# Altium integrated library Headers_Integrated_Library.IntLib: 18 symbols
Pins are listed as number, name and electrical type; pins without a type are passive.

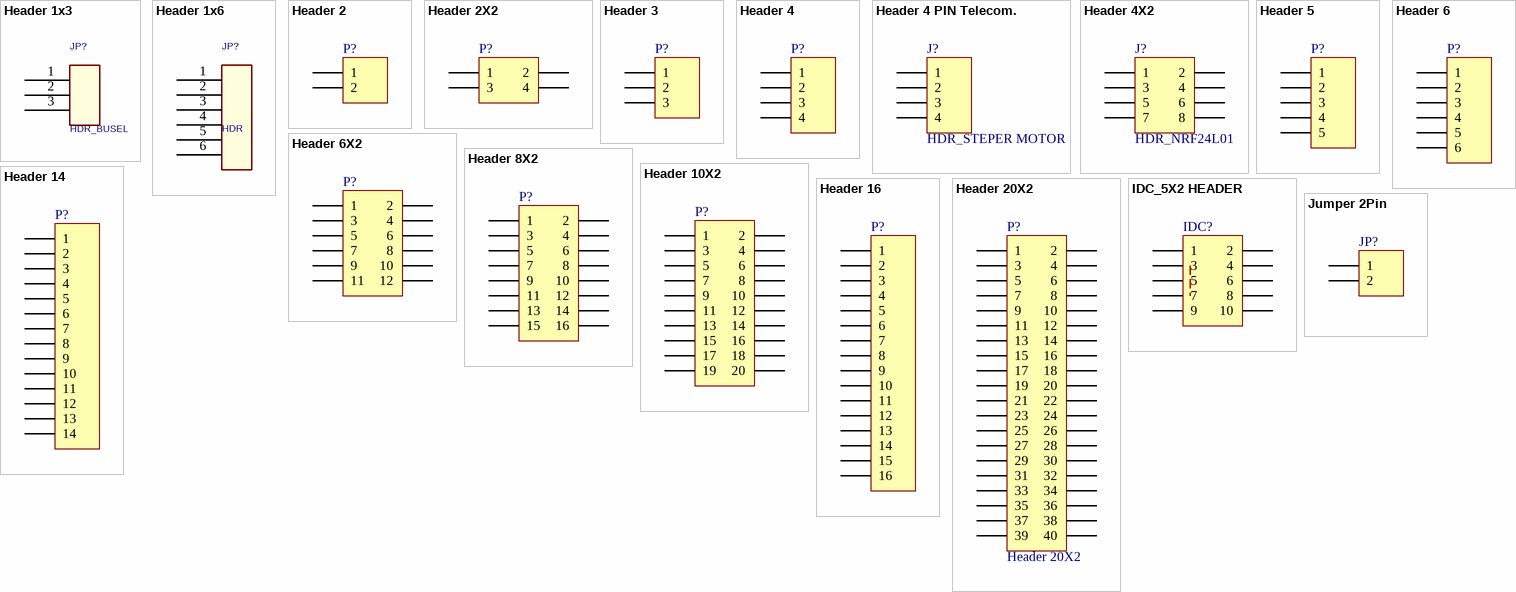
[diagram p0: symbols Header 1x3 to Jumper 2Pin]

## Header 1x3
designator JP?, comment HDR_BUSEL
header or jumper box
footprint HDR_1x3 (Header /Jumper box-Designer Abbas Basereh)
pins: 1, 2, 3

## Header 1x6
designator JP?, comment HDR
header or jumper box; DESIGNER: ABBAS BASEREH
footprint HDR_1x6 (Header /Jumper box-Designer Abbas Basereh)
pins: 1, 2, 3, 4, 5, 6

## Header 2
designator P?  (value not drawn)
Header, 2-Pin; LatestRevisionDate: 17-Jul-2002; LatestRevisionNote: Re-released for DXP Platform.; Publisher: Altium Limited
footprint My_1X02
pins: 1, 2

## Header 2X2
designator P?  (value not drawn)
Header, 2-Pin, Dual row; LatestRevisionDate: 17-Jul-2002; LatestRevisionNote: Re-released for DXP Platform.; Publisher: Altium Limited
footprint My_2X02
pins: 1, 2, 3, 4

## Header 3
designator P?  (value not drawn)
Header, 3-Pin; LatestRevisionDate: 17-Jul-2002; LatestRevisionNote: Re-released for DXP Platform.; Publisher: Altium Limited
footprint My_1X03
pins: 1, 2, 3

## Header 4
designator P?  (value not drawn)
Header, 4-Pin; LatestRevisionDate: 17-Jul-2002; LatestRevisionNote: Re-released for DXP Platform.; Publisher: Altium Limited
footprint My_1X04
pins: 1, 2, 3, 4

## Header 4 PIN Telecom.
designator J?, comment HDR_STEPER MOTOR
Header, 4-Pin Telecom.; Designer: Abbas Basereh; Data: 16-12-2016; Link: *; Part. No: *
footprint CON WF_4 (DS1070  WF, Cvilux CI31 pitch 2.54mm-Designer Abbas Basereh)
pins: 1, 2, 3, 4

## Header 4X2
designator J?, comment HDR_NRF24L01
Header, 4-Pin, Dual row; Designer: Abbas Basereh; Data: 16-12-2016; Link: *; Part. No: *
footprint HDR_2X4 (Designer:Abbas Basereh)
pins: 1, 2, 3, 4, 5, 6, 7, 8

## Header 5
designator P?  (value not drawn)
Header, 5-Pin; LatestRevisionDate: 17-Jul-2002; LatestRevisionNote: Re-released for DXP Platform.; Publisher: Altium Limited
footprint My_1X05
pins: 1, 2, 3, 4, 5

## Header 6
designator P?  (value not drawn)
Header, 6-Pin; LatestRevisionDate: 17-Jul-2002; LatestRevisionNote: Re-released for DXP Platform.; Publisher: Altium Limited
footprint My_1X06
pins: 1, 2, 3, 4, 5, 6

## Header 6X2
designator P?  (value not drawn)
Header, 6-Pin, Dual row; LatestRevisionDate: 17-Jul-2002; LatestRevisionNote: Re-released for DXP Platform.; Publisher: Altium Limited
footprint My_2X06
pins: 1, 2, 3, 4, 5, 6, 7, 8, 9, 10, 11, 12

## Header 8X2
designator P?  (value not drawn)
Header, 8-Pin, Dual row; LatestRevisionDate: 17-Jul-2002; LatestRevisionNote: Re-released for DXP Platform.; Publisher: Altium Limited
footprint My_2X08
pins: 1, 2, 3, 4, 5, 6, 7, 8, 9, 10, 11, 12, 13, 14, 15, 16

## Header 10X2
designator P?  (value not drawn)
Header, 10-Pin, Dual row; LatestRevisionDate: 17-Jul-2002; LatestRevisionNote: Re-released for DXP Platform.; Publisher: Altium Limited
footprint My_2X10
pins: 1, 2, 3, 4, 5, 6, 7, 8, 9, 10, 11, 12, 13, 14, 15, 16, 17, 18, 19, 20

## Header 14
designator P?  (value not drawn)
Header, 14-Pin; LatestRevisionDate: 17-Jul-2002; LatestRevisionNote: Re-released for DXP Platform.; Publisher: Altium Limited
footprint My_1X14
pins: 1, 2, 3, 4, 5, 6, 7, 8, 9, 10, 11, 12, 13, 14

## Header 16
designator P?  (value not drawn)
Header, 16-Pin; LatestRevisionDate: 17-Jul-2002; LatestRevisionNote: Re-released for DXP Platform.; Publisher: Altium Limited
footprint My_1X16
pins: 1, 2, 3, 4, 5, 6, 7, 8, 9, 10, 11, 12, 13, 14, 15, 16

## Header 20X2
designator P?
Header, 20-Pin, Dual row; LatestRevisionDate: 17-Jul-2002; LatestRevisionNote: Re-released for DXP Platform.; Publisher: Altium Limited
footprint My_IDCM40
footprint My_IDCM40A
footprint My_IDCRM40
pins: 1, 2, 3, 4, 5, 6, 7, 8, 9, 10, 11, 12, 13, 14, 15, 16, 17, 18, 19, 20, 21, 22, 23, 24, 25, 26, 27, 28, 29, 30, 31, 32, 33, 34, 35, 36, 37, 38, 39, 40

## IDC_5X2 HEADER
designator IDC?, comment CONNECTOR_IDC_5X2  (value not drawn)
Header, 5-Pin, Dual row; Manufacturer: CHINA; designer: ABBAS BASEREH; Connector type: IDC5X2  PROGPIN; Max Current: mA; LatestRevisionDate: 1395-11-17; Publisher: ABBAS BASEREH; Mounting Technology: Through-Hole; Category: Connector; Pin Count: 10; Status: Unreleased; ComponentLink1Description: Datasheet; ComponentLink2Description: Reference; Update: 2017-2-4
signal-integrity model IDC PIN CONNECTOR (DESIGNED BY ABBAS BASEREH)
footprint IDC2.54-10PIN (Connector; IDC, Low Profile Male Header, Thru-Hole; 10 Position; Vertical; Pitch 2.54 mm; 20.32 x 9.2 x 9.45 mm (LxWxH) DESIGNER : ABBAS BASEREH)
footprint IDC2.54-10PIN WITH CABLE (Connector; IDC, Low Profile Male Header, Thru-Hole; 10 Position; Vertical; Pitch 2.54 mm; 20.32 x 9.2 x 9.45 mm (LxWxH) DESIGNER : ABBAS BASEREH)
footprint IDC2.54-10PIN - CROSS (Connector; IDC, Low Profile Male Header, Thru-Hole; 10 Position; Vertical; Pitch 2.54 mm; 20.32 x 9.2 x 9.45 mm (LxWxH) DESIGNER : ABBAS BASEREH)
pins: 1, 2, 3, 4, 5, 6, 7, 8, 9, 10

## Jumper 2Pin
designator JP?
Jumper, 2-Pin; Designer: Abbas Basereh; Data: 16-12-2016; Link: *
footprint Jumper Small - 2.54 - Black (Designer Abbas Basereh)
footprint Jumper Small - 2.54 - Blue (Designer Abbas Basereh)
footprint Jumper Small - 2.54 - Green (Designer Abbas Basereh)
footprint Jumper Small - 2.54 - RED (Designer Abbas Basereh)
pins: 1, 2